# Altium footprint library CE_E_8X6.3MM.PcbLib: 1 footprints
Each footprint in its own frame and in the unit in brackets; x right, y up, seen from the top. Pads: shape width x height; smd on the part's side, far side on the other; paste and mask are expansions set on the pad; w line width, h text height; cw(c..) or ccw(c..) is an arc to the next point about the centre after c.
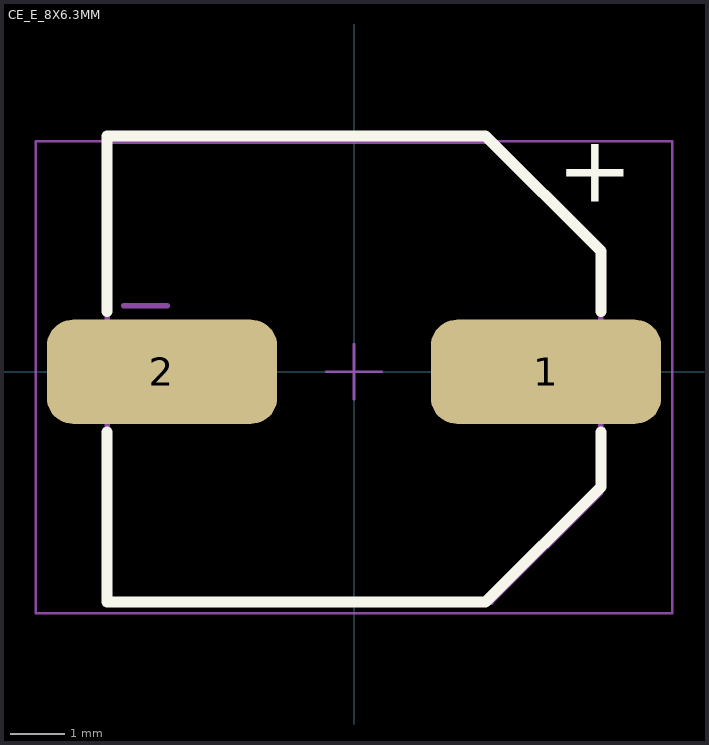
[diagram p0: the footprint, top view; thin cyan lines are the x and y axes]

## CE_E_8X6.3MM [mm] "Aluminium Electrolytic V-Chip SMT Capacitors, 8x6.3mm"
height 7.7
pads (2):
  rrect50% 4.2x1.9 smd: 1(3.5,0) 2(-3.5,0)
Top Overlay:
  lines w0.2: -4.5,-1.1 -4.5,-4.2 2.4,-4.2 4.5,-2.1 4.5,-1.1 ; -4.5,1.1 -4.5,4.3 2.4,4.3 4.5,2.2 4.5,1.1
  text "+" at 3.7,3.1 h1.22
Top Assembly:
  lines w0.1: -4.2,1.2 -3.4,1.2 ; -4.5,-4.2 2.5,-4.2 4.5,-2.2 4.5,2.2 2.5,4.2 -4.5,4.2 -4.5,-4.2
  text "+" at 3,1.2 h1.22
Top Courtyard:
  lines w0.05: -0.5,0 0.5,0 ; 0,-0.5 0,0.5 ; -5.8,-4.4 5.8,-4.4 5.8,4.2 -5.8,4.2 -5.8,-4.4
3D body "Download_STP_865090x490xx (rev1).stp": height 6.5, standoff 0, extent -4.5,-4.15 4.5,4.15